# EAGLE library part SI5351C (library aarf)
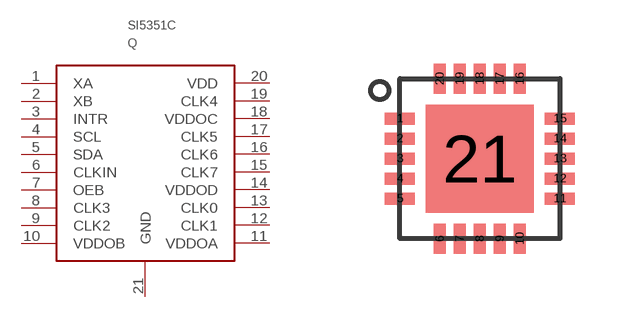
[diagram p7: symbol with the pads of QFN20; footprint QFN20]

Designator prefix Q

## SI5351C  [QFN20]
1  XA
2  XB
3  INTR
4  SCL
5  SDA
6  CLKIN
7  OEB
8  CLK3
9  CLK2
10  VDDOB
11  VDDOA
12  CLK1
13  CLK0
14  VDDOD
15  CLK7
16  CLK6
17  CLK5
18  VDDOC
19  CLK4
20  VDD
21  GND

## Footprint QFN20 (pad centres in mm)
smd 0.75 x 0.3: 1 -2,1; 2 -2,0.5; 3 -2,0; 4 -2,-0.5; 5 -2,-1; 11 2,-1; 12 2,-0.5; 13 2,0; 14 2,0.5; 15 2,1
smd 0.3 x 0.75: 6 -1,-2; 7 -0.5,-2; 8 0,-2; 9 0.5,-2; 10 1,-2; 16 1,2; 17 0.5,2; 18 0,2; 19 -0.5,2; 20 -1,2
smd 2.7 x 2.7: 21 0,0